# Altium footprint library SparkFun-Connectors.PCBLIB: 310 footprints (part 4 of 20)
Each footprint in its own frame and in the unit in brackets; x right, y up, seen from the top. Pads: shape width x height; smd on the part's side, far side on the other; paste and mask are expansions set on the pad; w line width, h text height; cw(c..) or ccw(c..) is an arc to the next point about the centre after c.
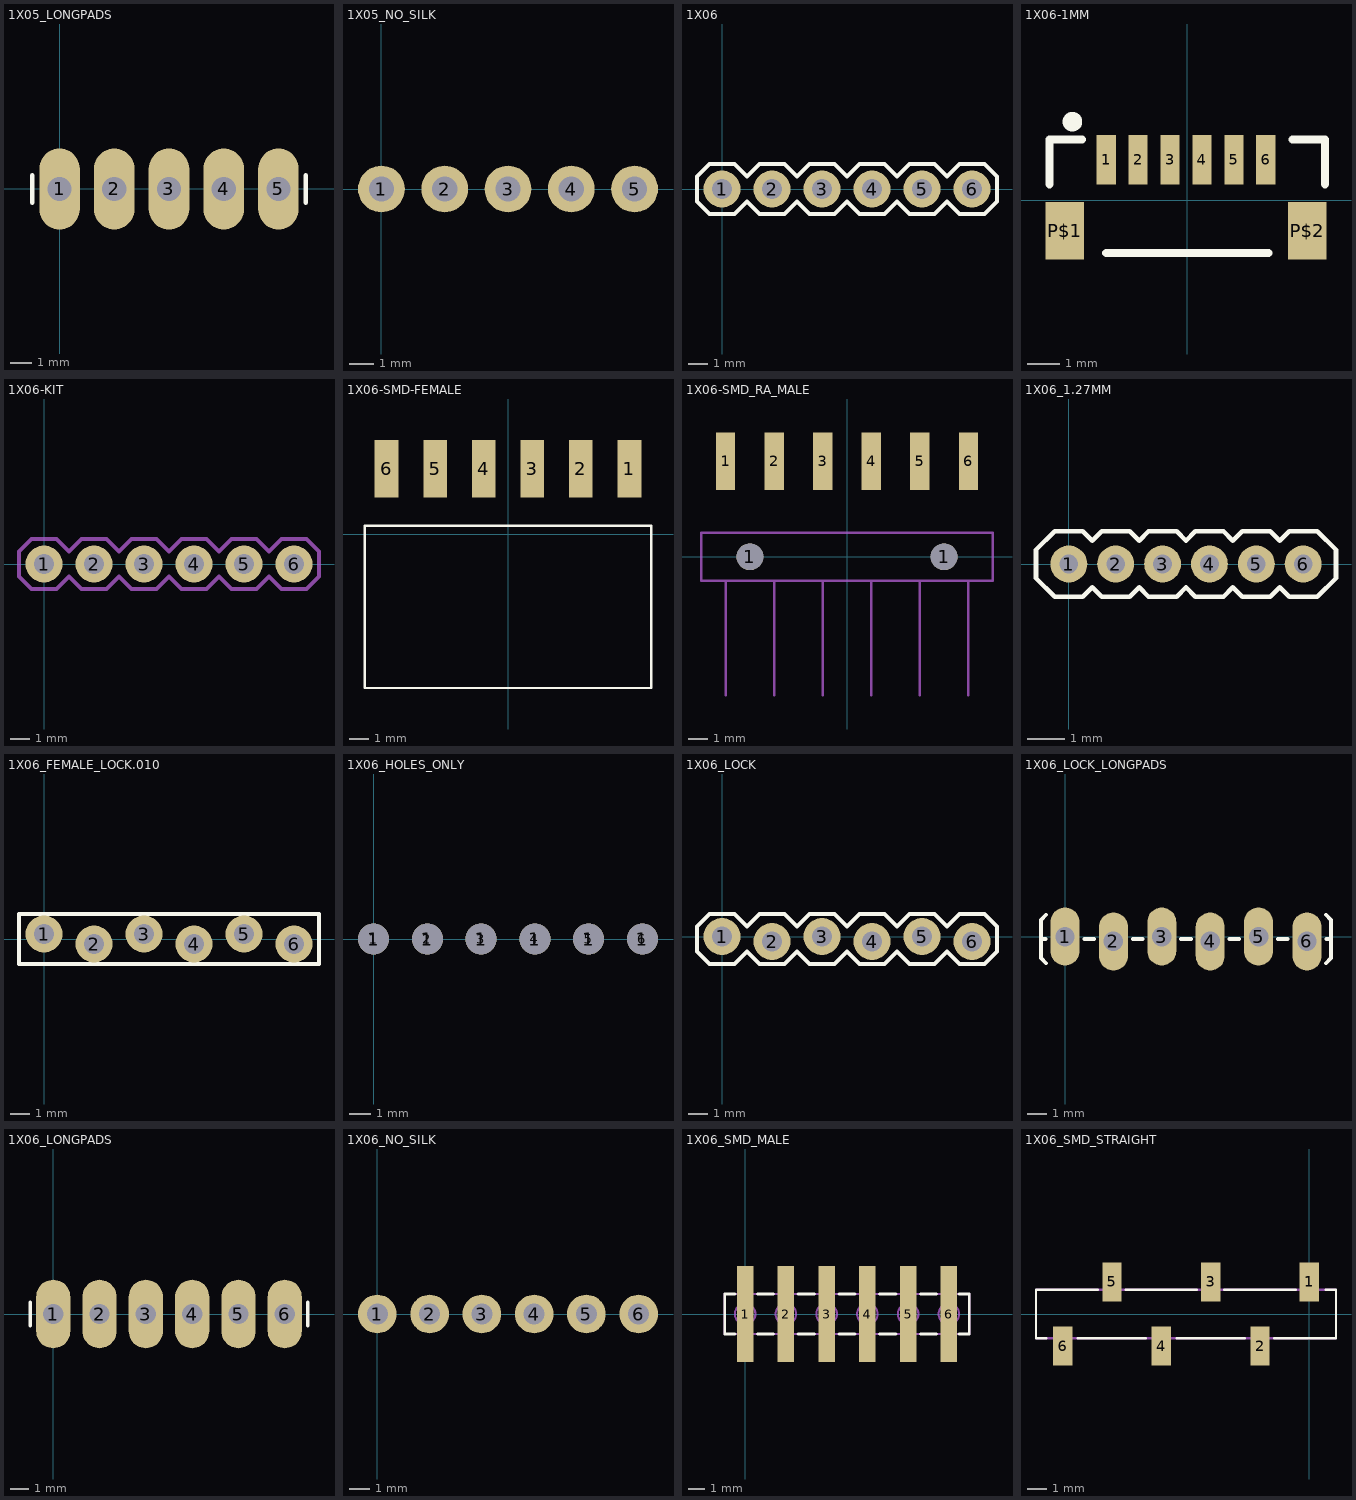
[diagram p3: the footprints below, top view; thin cyan lines are the x and y axes]

## 1X05_LONGPADS [mil]
pads (5):
  oval 74x148 hole 44: 1(0,0) 2(100,0) 3(200,0) 4(300,0) 5(400,0)
Top Overlay:
  lines w8: -50,-25 -50,25 ; 450,-25 450,25
Mechanical 16:
  rectangle: 390,-10 410,10
  rectangle: 290,-10 310,10
  rectangle: 190,-10 210,10
  rectangle: 90,-10 110,10
  rectangle: -10,-10 10,10

## 1X05_NO_SILK [mil]
pads (5):
  round 74 hole 40: 1(0,0) 2(100,0) 3(200,0) 4(300,0) 5(400,0)
Mechanical 16:
  rectangle: 390,-10 410,10
  rectangle: 290,-10 310,10
  rectangle: 190,-10 210,10
  rectangle: 90,-10 110,10
  rectangle: -10,-10 10,10

## 1X06 [mil]
pads (6):
  round 74 hole 40: 1(0,0) 2(100,0) 3(200,0) 4(300,0) 5(400,0) 6(500,0)
Top Overlay:
  lines w8: -50,-25 -50,25 -25,50 25,50 50,25 75,50 125,50 150,25 175,50 225,50 250,25 275,50 325,50 350,25 375,50 425,50 450,25 475,50 525,50 550,25 550,-25 525,-50 475,-50 450,-25 425,-50 375,-50 350,-25 325,-50 275,-50 250,-25 225,-50 175,-50 150,-25 125,-50 75,-50 50,-25 25,-50 -25,-50 -50,-25
Mechanical 16:
  rectangle: 490,-10 510,10
  rectangle: 390,-10 410,10
  rectangle: 290,-10 310,10
  rectangle: 190,-10 210,10
  rectangle: 90,-10 110,10
  rectangle: -10,-10 10,10

## 1X06-1MM [mm]
pads (8):
  rect 0.6x1.55 smd: 1(-2.54,1.27) 2(-1.54,1.27) 3(-0.54,1.27) 4(0.46,1.27) 5(1.46,1.27) 6(2.46,1.27)
  rect 1.2x1.8 smd: P$1(-3.84,-0.955) P$2(3.76,-0.955)
Top Overlay:
  circle w0.406: c-3.6,2.47 r0.105
  lines w0.254: -4.318,0.508 -4.318,1.905 -3.302,1.905 ; -2.54,-1.651 2.54,-1.651 ; 3.302,1.905 4.318,1.905 4.318,0.508

## 1X06-KIT [mil]
pads (6):
  round 74 hole 40: 1(0,0) 2(100,0) 3(200,0) 4(300,0) 5(400,0) 6(500,0)
Top Solder:
  region: 0.01,-17.76 -0.4,-17.84 -7.08,-16.51 -12.73,-12.73 -16.51,-7.08 -17.76,-0.81 -17.77,-0.81 -17.86,-0.35 -16.46,6.66 -12.5,12.6 -6.56,16.56 -0.01,17.87 0,17.89 6.61,16.58 12.46,12.66 16.38,6.81 17.75,-0.1 17.69,-0.4 17.71,-0.4 16.4,-6.98 12.59,-12.69 6.88,-16.5 0.15,-17.84 0,-17.81
  region: 100.01,-17.76 99.6,-17.84 92.92,-16.51 87.27,-12.73 83.49,-7.08 82.24,-0.81 82.23,-0.81 82.14,-0.35 83.54,6.66 87.5,12.6 93.44,16.56 99.99,17.87 100,17.89 106.61,16.58 112.46,12.66 116.38,6.81 117.75,-0.1 117.69,-0.4 117.71,-0.4 116.4,-6.98 112.59,-12.69 106.88,-16.5 100.15,-17.84 100,-17.81
  region: 200.01,-17.76 199.6,-17.84 192.92,-16.51 187.27,-12.73 183.49,-7.08 182.24,-0.81 182.23,-0.81 182.14,-0.35 183.54,6.66 187.5,12.6 193.44,16.56 199.99,17.87 200,17.89 206.61,16.58 212.46,12.66 216.38,6.81 217.75,-0.1 217.69,-0.4 217.71,-0.4 216.4,-6.98 212.59,-12.69 206.88,-16.5 200.15,-17.84 200,-17.81
  region: 300.01,-17.76 299.6,-17.84 292.92,-16.51 287.27,-12.73 283.49,-7.08 282.24,-0.81 282.23,-0.81 282.14,-0.35 283.54,6.66 287.5,12.6 293.44,16.56 299.99,17.87 300,17.89 306.61,16.58 312.46,12.66 316.38,6.81 317.75,-0.1 317.69,-0.4 317.71,-0.4 316.4,-6.98 312.59,-12.69 306.88,-16.5 300.15,-17.84 300,-17.81
  region: 400.01,-17.76 399.6,-17.84 392.92,-16.51 387.27,-12.73 383.49,-7.08 382.24,-0.81 382.23,-0.81 382.14,-0.35 383.54,6.66 387.5,12.6 393.44,16.56 399.99,17.87 400,17.89 406.61,16.58 412.46,12.66 416.38,6.81 417.75,-0.1 417.69,-0.4 417.71,-0.4 416.4,-6.98 412.59,-12.69 406.88,-16.5 400.15,-17.84 400,-17.81
  region: 500.01,-17.76 499.6,-17.84 492.92,-16.51 487.27,-12.73 483.49,-7.08 482.24,-0.81 482.23,-0.81 482.14,-0.35 483.54,6.66 487.5,12.6 493.44,16.56 499.99,17.87 500,17.89 506.61,16.58 512.46,12.66 516.38,6.81 517.75,-0.1 517.69,-0.4 517.71,-0.4 516.4,-6.98 512.59,-12.69 506.88,-16.5 500.15,-17.84 500,-17.81
Bottom Solder:
  drawing of 6 lines, arcs and shapes, not listed
Mechanical 16:
  rectangle: 490,-10 510,10
  rectangle: 390,-10 410,10
  rectangle: 290,-10 310,10
  rectangle: 190,-10 210,10
  rectangle: 90,-10 110,10
  rectangle: -10,-10 10,10
  lines w8: -50,-25 -50,25 -25,50 25,50 50,25 75,50 125,50 150,25 175,50 225,50 250,25 275,50 325,50 350,25 375,50 425,50 450,25 475,50 525,50 550,25 550,-25 525,-50 475,-50 450,-25 425,-50 375,-50 350,-25 325,-50 275,-50 250,-25 225,-50 175,-50 150,-25 125,-50 75,-50 50,-25 25,-50 -25,-50 -50,-25

## 1X06-SMD-FEMALE [mm]
pads (6):
  rect 1.25x3 smd: 1(6.35,3.425) 2(3.81,3.425) 3(1.27,3.425) 4(-1.27,3.425) 5(-3.81,3.425) 6(-6.35,3.425)
Top Overlay:
  lines w0.127: -7.5,-8.05 -7.5,0.45 7.5,0.45 7.5,-8.05 -7.5,-8.05

## 1X06-SMD_RA_MALE [mm]
pads (8):
  rect 1x3 smd: 1(-6.35,5) 2(-3.81,5) 3(-1.27,5) 4(1.27,5) 5(3.81,5) 6(6.35,5)
  round 1.4 hole 1.4: 1(-5.08,0) 1(5.08,0)
Mechanical 16:
  lines w0.127: -6.35,-7.25 -6.35,-1.25 ; -3.81,-7.25 -3.81,-1.25 ; -1.27,-7.25 -1.27,-1.25 ; 1.27,-7.25 1.27,-1.25 ; 3.81,-7.25 3.81,-1.25 ; 6.35,-7.25 6.35,-1.25 ; -6.35,-1.25 -7.62,-1.25 -7.62,1.25 7.62,1.25 7.62,-1.25 6.35,-1.25 ; -6.35,-1.25 -3.81,-1.25 ; -3.81,-1.25 -1.27,-1.25 ; -1.27,-1.25 1.27,-1.25 ; 1.27,-1.25 3.81,-1.25 ; 3.81,-1.25 6.35,-1.25

## 1X06_1.27MM [mm]
pads (6):
  round 1 hole 0.508: 1(0,0) 2(1.27,0) 3(2.54,0) 4(3.81,0) 5(5.08,0) 6(6.35,0)
Top Overlay:
  lines w0.127: -0.889,-0.381 -0.381,-0.889 0.381,-0.889 0.635,-0.635 0.889,-0.889 1.651,-0.889 1.905,-0.635 2.159,-0.889 2.921,-0.889 3.175,-0.635 3.429,-0.889 4.191,-0.889 4.445,-0.635 4.699,-0.889 5.461,-0.889 5.715,-0.635 5.969,-0.889 6.731,-0.889 7.239,-0.381 7.239,0.381 6.731,0.889 5.969,0.889 5.715,0.635 5.461,0.889 4.699,0.889 4.445,0.635 4.191,0.889 3.429,0.889 3.175,0.635 2.921,0.889 2.159,0.889 1.905,0.635 1.651,0.889 0.889,0.889 0.635,0.635 0.381,0.889 -0.381,0.889 -0.889,0.381 -0.889,-0.381

## 1X06_FEMALE_LOCK.010 [mil]
pads (6):
  round 74 hole 40: 1(0,10) 2(100,-10) 3(200,10) 4(300,-10) 5(400,10) 6(500,-10)
Top Overlay:
  lines w8: -50,-50 -50,50 550,50 550,-50 -50,-50
Mechanical 16:
  rectangle: -12.5,-7.5 12.5,7.5
  rectangle: 87.5,-7.5 112.5,7.5
  rectangle: 187.5,-7.5 212.5,7.5
  rectangle: 287.5,-7.5 312.5,7.5
  rectangle: 387.5,-7.5 412.5,7.5
  rectangle: 487.5,-7.5 512.5,7.5

## 1X06_HOLES_ONLY [mil]
pads (12):
  round 32 hole 35: 1(0,0) 2(100,0) 3(200,0) 4(300,0) 5(400,0) 6(500,0)
  round 58 hole 58: 1(0,0) 1(100,0) 1(200,0) 1(300,0) 1(400,0) 1(500,0)
Mechanical 16:
  circle w5: c0,0 r25
  circle w5: c100,0 r25
  circle w5: c200,0 r25
  circle w5: c300,0 r25
  circle w5: c400,0 r25
  circle w5: c500,0 r25

## 1X06_LOCK [mil]
pads (6):
  round 74 hole 40: 1(0,0) 2(100,-10) 3(200,0) 4(300,-10) 5(400,0) 6(500,-10)
Top Overlay:
  lines w8: -50,-30 -25,-55 25,-55 50,-30 75,-55 125,-55 150,-30 175,-55 225,-55 250,-30 275,-55 325,-55 350,-30 375,-55 425,-55 450,-30 475,-55 525,-55 550,-30 550,20 525,45 475,45 450,20 425,45 375,45 350,20 325,45 275,45 250,20 225,45 175,45 150,20 125,45 75,45 50,20 25,45 -25,45 -50,20 -50,-30
Mechanical 16:
  rectangle: -11.5,-16.5 11.5,6.5
  rectangle: 88.5,-16.5 111.5,6.5
  rectangle: 188.5,-16.5 211.5,6.5
  rectangle: 288.5,-16.5 311.5,6.5
  rectangle: 388.5,-16.5 411.5,6.5
  rectangle: 488.5,-16.5 511.5,6.5

## 1X06_LOCK_LONGPADS [mil]
pads (6):
  oval 60x120 hole 40: 1(0,0) 2(100,-10) 3(200,0) 4(300,-10) 5(400,0) 6(500,-10)
Top Overlay:
  lines w8: -40,-5 -50,-5 ; -39,-55 -50,-44 -50,-5 ; -39,45 -50,34 -50,-5 ; 40,-5 60,-5 ; 140,-5 160,-5 ; 240,-5 260,-5 ; 340,-5 360,-5 ; 440,-5 460,-5 ; 539,-55 550,-44 550,-5 ; 539,45 550,34 550,-5 ; 540,-5 550,-5
Mechanical 16:
  rectangle: -11.5,-16.5 11.5,6.5
  rectangle: 88.5,-16.5 111.5,6.5
  rectangle: 188.5,-16.5 211.5,6.5
  region: 311.5,-16.5 311.5,6.5 288.5,6.5 288.5,-16.5
  rectangle: 388.5,-16.5 411.5,6.5
  rectangle: 488.5,-16.5 511.5,6.5

## 1X06_LONGPADS [mil]
pads (6):
  oval 74x148 hole 44: 1(0,0) 2(100,0) 3(200,0) 4(300,0) 5(400,0) 6(500,0)
Top Overlay:
  lines w8: -50,-25 -50,25 ; 550,-25 550,25
Mechanical 16:
  rectangle: 490,-10 510,10
  rectangle: 390,-10 410,10
  rectangle: 290,-10 310,10
  rectangle: 190,-10 210,10
  rectangle: 90,-10 110,10
  rectangle: -10,-10 10,10

## 1X06_NO_SILK [mil]
pads (6):
  round 74 hole 40: 1(0,0) 2(100,0) 3(200,0) 4(300,0) 5(400,0) 6(500,0)
Mechanical 16:
  rectangle: 490,-10 510,10
  rectangle: 390,-10 410,10
  rectangle: 290,-10 310,10
  rectangle: 190,-10 210,10
  rectangle: 90,-10 110,10
  rectangle: -10,-10 10,10

## 1X06_SMD_MALE [mm]
pads (6):
  rect 1.02x6 smd: 1(0,0) 2(2.54,0) 3(5.08,0) 4(7.62,0) 5(10.16,0) 6(12.7,0)
Top Overlay:
  lines w0.178: -0.635,-1.25 -1.27,-1.25 -1.27,1.25 -0.635,1.25 ; 0.762,-1.25 1.778,-1.25 ; 0.762,1.25 1.778,1.25 ; 3.302,-1.25 4.318,-1.25 ; 3.302,1.25 4.318,1.25 ; 5.842,-1.25 6.858,-1.25 ; 5.842,1.25 6.858,1.25 ; 8.382,-1.25 9.398,-1.25 ; 8.382,1.25 9.398,1.25 ; 10.922,-1.25 11.938,-1.25 ; 10.922,1.25 11.938,1.25 ; 13.335,-1.25 13.97,-1.25 13.97,1.25 13.335,1.25
Mechanical 16:
  circle w0.127: c0,0 r0.64
  circle w0.127: c2.54,0 r0.64
  circle w0.127: c5.08,0 r0.64
  circle w0.127: c7.62,0 r0.64
  circle w0.127: c10.16,0 r0.64
  circle w0.127: c12.7,0 r0.64
  rectangle: -0.32,0 0.32,2.75
  rectangle: 4.76,0 5.4,2.75
  rectangle: 9.84,0 10.48,2.75
  region: 2.86,0 2.22,0 2.22,-2.75 2.86,-2.75
  region: 7.94,0 7.3,0 7.3,-2.75 7.94,-2.75
  region: 13.02,0 12.38,0 12.38,-2.75 13.02,-2.75
  lines w0.127: -1.27,-1.25 -1.27,1.25 13.97,1.25 13.97,-1.25 -1.27,-1.25

## 1X06_SMD_STRAIGHT [mm]
pads (6):
  rect 1x2 smd: 1(0,1.65) 2(-2.54,-1.65) 3(-5.08,1.65) 4(-7.62,-1.65) 5(-10.16,1.65) 6(-12.7,-1.65)
Top Overlay:
  lines w0.127: -13.55,-1.25 -14.07,-1.25 -14.07,1.25 -10.883,1.25 ; -11.911,-1.25 -8.409,-1.25 ; -9.457,1.25 -5.783,1.25 ; -6.831,-1.25 -3.329,-1.25 ; -4.377,1.25 -0.703,1.25 ; -1.817,-1.25 1.37,-1.25 1.37,1.25 0.85,1.25
Mechanical 16:
  lines w0.127: -14.07,-1.25 -14.07,1.25 1.37,1.25 1.37,-1.25 -14.07,-1.25